# EAGLE library part 7499011002 (library Wurth Electronics Midcom Inc V1-0)
Package Style: RJ45 10/100 STD Mounting: THT LED: None Shield: 293-0533 Header: 183-0132 Windings Primary: Aux: Secondary: Best pinouts for production vary per application. Please contact Wurth Electronics Midcom, Inc. for assistance with your custom design. Datasheet: 7499011002 <http://katalog.we-online.de/kataloge/eisos/media/pdf/7499011002A.pdf> Website: Wurth Electronics Midcom <http://www.we-online.com/midcom> Contact us Wurth Electronics Midcom, Inc. 121 Airport Dr. Watertown, SD 57201 Phone: (605) 886-4385 Fax: (605) 886-4486 E-Mail: midcom@we-online.com
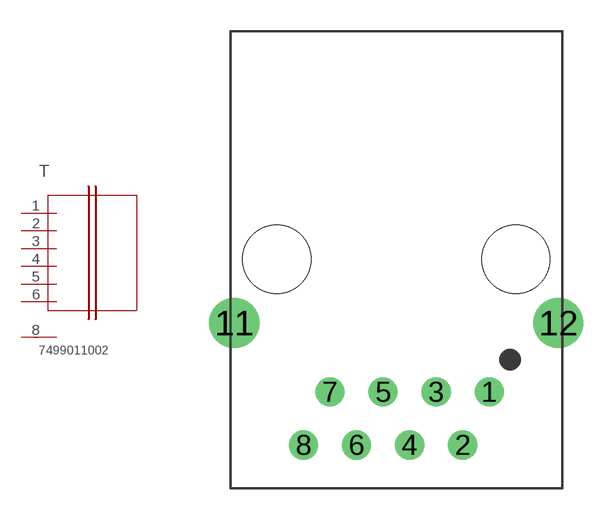
[diagram p164: symbol with the pads of 01LAN_RJ45_10/00_STD; footprint 01LAN_RJ45_10/00_STD]

Designator prefix T

## 7499011002  [01LAN_RJ45_10/00_STD]
1  1  pas
2  2  pas
3  3  pas
4  4  pas
5  5  pas
6  6  pas
8  7  pas

## Footprint 01LAN_RJ45_10/00_STD (pad centres in mm)
Package Style: RJ45 10/100 STD Mounting: THT LED: None
drill 0.889 round: 1 4.445,-6.325; 2 3.175,-8.865; 3 1.905,-6.325; 4 0.635,-8.865; 5 -0.635,-6.325; 6 -1.905,-8.865; 7 -3.175,-6.325; 8 -4.445,-8.865
drill 1.6 round: 11 -7.747,-3.023; 12 7.747,-3.023
hole 3.251 at -5.715,0.025
hole 3.251 at 5.715,0.025